# EAGLE library part CY8C29866 (library cypresspsoc_0.30)
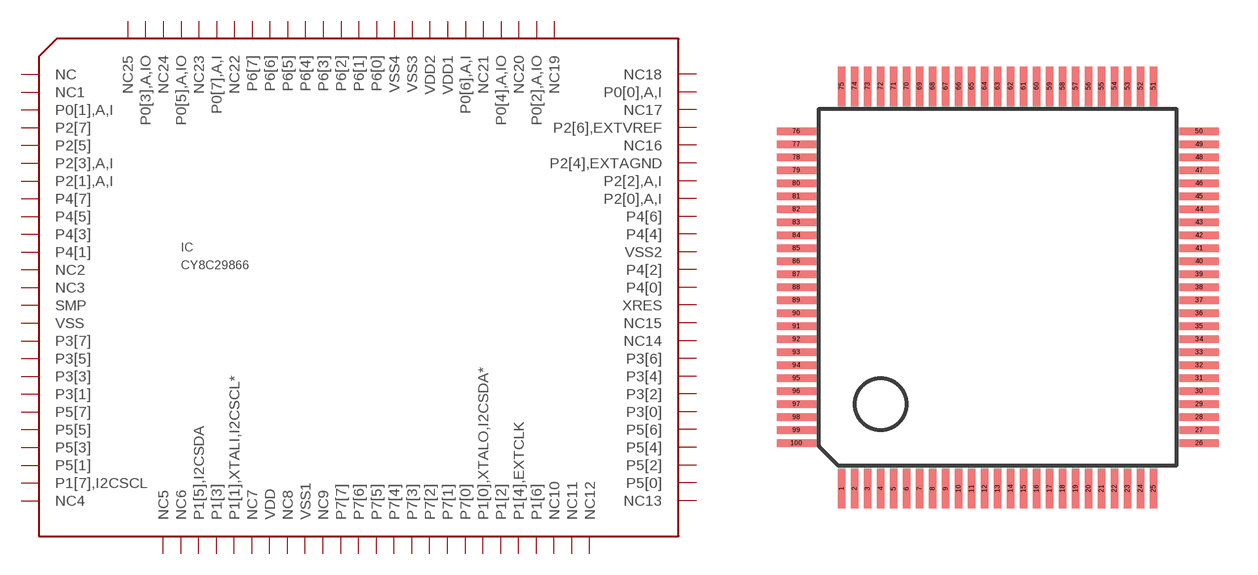
[diagram p10: symbol with the pads of TQFP100; footprint TQFP100]

Designator prefix IC

## CY8C29866_TQFP100  [TQFP100]
1  NC  nc
2  NC1  nc
3  P0[1],A,I
4  P2[7]
5  P2[5]
6  P2[3],A,I
7  P2[1],A,I
8  P4[7]
9  P4[5]
10  P4[3]
11  P4[1]
12  NC2  nc
13  NC3  nc
14  SMP  pwr
15  VSS  pwr
16  P3[7]
17  P3[5]
18  P3[3]
19  P3[1]
20  P5[7]
21  P5[5]
22  P5[3]
23  P5[1]
24  P1[7],I2CSCL
25  NC4  nc
26  NC5  nc
27  NC6  nc
28  P1[5],I2CSDA
29  P1[3]
30  P1[1],XTALI,I2CSCL*
31  NC7  nc
32  VDD  pwr
33  NC8  nc
34  VSS1  pwr
35  NC9  nc
36  P7[7]
37  P7[6]
38  P7[5]
39  P7[4]
40  P7[3]
41  P7[2]
42  P7[1]
43  P7[0]
44  P1[0],XTALO,I2CSDA*
45  P1[2]
46  P1[4],EXTCLK
47  P1[6]
48  NC10  nc
49  NC11  nc
50  NC12  nc
51  NC13  nc
52  P5[0]
53  P5[2]
54  P5[4]
55  P5[6]
56  P3[0]
57  P3[2]
58  P3[4]
59  P3[6]
60  NC14  nc
61  NC15  nc
62  XRES
63  P4[0]
64  P4[2]
65  VSS2  pwr
66  P4[4]
67  P4[6]
68  P2[0],A,I
69  P2[2],A,I
70  P2[4],EXTAGND
71  NC16  nc
72  P2[6],EXTVREF
73  NC17  nc
74  P0[0],A,I
75  NC18  nc
76  NC19  nc
77  P0[2],A,IO
78  NC20  nc
79  P0[4],A,IO
80  NC21  nc
81  P0[6],A,I
82  VDD1  pwr
83  VDD2  pwr
84  VSS3  pwr
85  VSS4  pwr
86  P6[0]
87  P6[1]
88  P6[2]
89  P6[3]
90  P6[4]
91  P6[5]
92  P6[6]
93  P6[7]
94  NC22  nc
95  P0[7],A,I
96  NC23  nc
97  P0[5],A,IO
98  NC24  nc
99  P0[3],A,IO
100  NC25  nc

## Footprint TQFP100 (pad centres in mm)
Thin Quad Flat Pack
smd 0.27 x 1.5: 1 -6,-7.75; 2 -5.5,-7.75; 3 -5,-7.75; 4 -4.5,-7.75; 5 -4,-7.75; 6 -3.5,-7.75; 7 -3,-7.75; 8 -2.5,-7.75; 9 -2,-7.75; 10 -1.5,-7.75; 11 -1,-7.75; 12 -0.5,-7.75; 13 0,-7.75; 14 0.5,-7.75; 15 1,-7.75; 16 1.5,-7.75; 17 2,-7.75; 18 2.5,-7.75; 19 3,-7.75; 20 3.5,-7.75; 21 4,-7.75; 22 4.5,-7.75; 23 5,-7.75; 24 5.5,-7.75; 25 6,-7.75; 51 6,7.75; 52 5.5,7.75; 53 5,7.75; 54 4.5,7.75; 55 4,7.75; 56 3.5,7.75; 57 3,7.75; 58 2.5,7.75; 59 2,7.75; 60 1.5,7.75; 61 1,7.75; 62 0.5,7.75; 63 0,7.75; 64 -0.5,7.75; 65 -1,7.75; 66 -1.5,7.75; 67 -2,7.75; 68 -2.5,7.75; 69 -3,7.75; 70 -3.5,7.75; 71 -4,7.75; 72 -4.5,7.75; 73 -5,7.75; 74 -5.5,7.75; 75 -6,7.75
smd 1.5 x 0.27: 26 7.75,-6; 27 7.75,-5.5; 28 7.75,-5; 29 7.75,-4.5; 30 7.75,-4; 31 7.75,-3.5; 32 7.75,-3; 33 7.75,-2.5; 34 7.75,-2; 35 7.75,-1.5; 36 7.75,-1; 37 7.75,-0.5; 38 7.75,0; 39 7.75,0.5; 40 7.75,1; 41 7.75,1.5; 42 7.75,2; 43 7.75,2.5; 44 7.75,3; 45 7.75,3.5; 46 7.75,4; 47 7.75,4.5; 48 7.75,5; 49 7.75,5.5; 50 7.75,6; 76 -7.75,6; 77 -7.75,5.5; 78 -7.75,5; 79 -7.75,4.5; 80 -7.75,4; 81 -7.75,3.5; 82 -7.75,3; 83 -7.75,2.5; 84 -7.75,2; 85 -7.75,1.5; 86 -7.75,1; 87 -7.75,0.5; 88 -7.75,0; 89 -7.75,-0.5; 90 -7.75,-1; 91 -7.75,-1.5; 92 -7.75,-2; 93 -7.75,-2.5; 94 -7.75,-3; 95 -7.75,-3.5; 96 -7.75,-4; 97 -7.75,-4.5; 98 -7.75,-5; 99 -7.75,-5.5; 100 -7.75,-6